# EAGLE library part MINIFIT_JR_5569-10A2 (library Display_Custom)
MOLEX Minifit JR 2x5 https://www.molex.com/pdm_docs/sd/039301022_sd.pdf
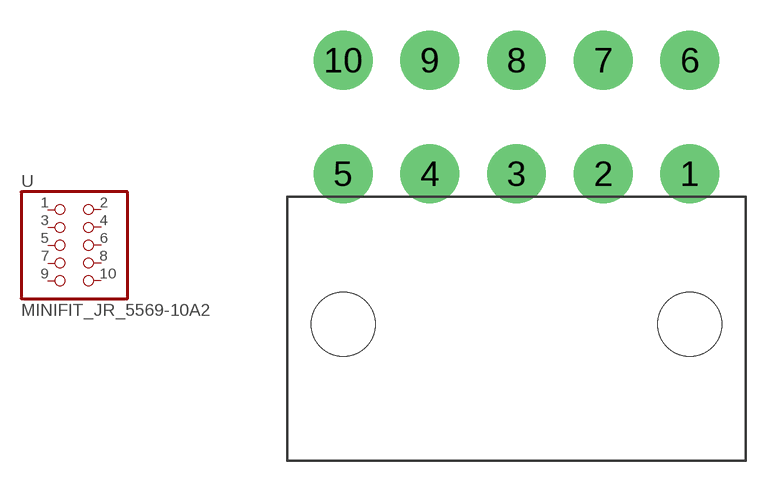
[diagram p6: symbol with the pads of MINIFIT_JR_5569-10A2; footprint MINIFIT_JR_5569-10A2]

Designator prefix -

## MINIFIT_JR_5569-10A2  [MINIFIT_JR_5569-10A2]
1  1  pas
2  2  pas
3  3  pas
4  4  pas
5  5  pas
6  6  pas
7  7  pas
8  8  pas
9  9  pas
10  10  pas

## Footprint MINIFIT_JR_5569-10A2 (pad centres in mm)
MOLEX Minifit JR Connector 5569-10A2 https://www.molex.com/pdm_docs/sd/039301022_sd.pdf
drill 1.9: 1 8.4,7.3; 2 4.2,7.3; 3 0,7.3; 4 -4.2,7.3; 5 -8.4,7.3; 6 8.4,12.8; 7 4.2,12.8; 8 0,12.8; 9 -4.2,12.8; 10 -8.4,12.8
hole 3.1 at -8.4,0
hole 3.1 at 8.4,0